# Altium integrated library NSC Legacy.IntLib: 687 symbols (part 9 of 17)
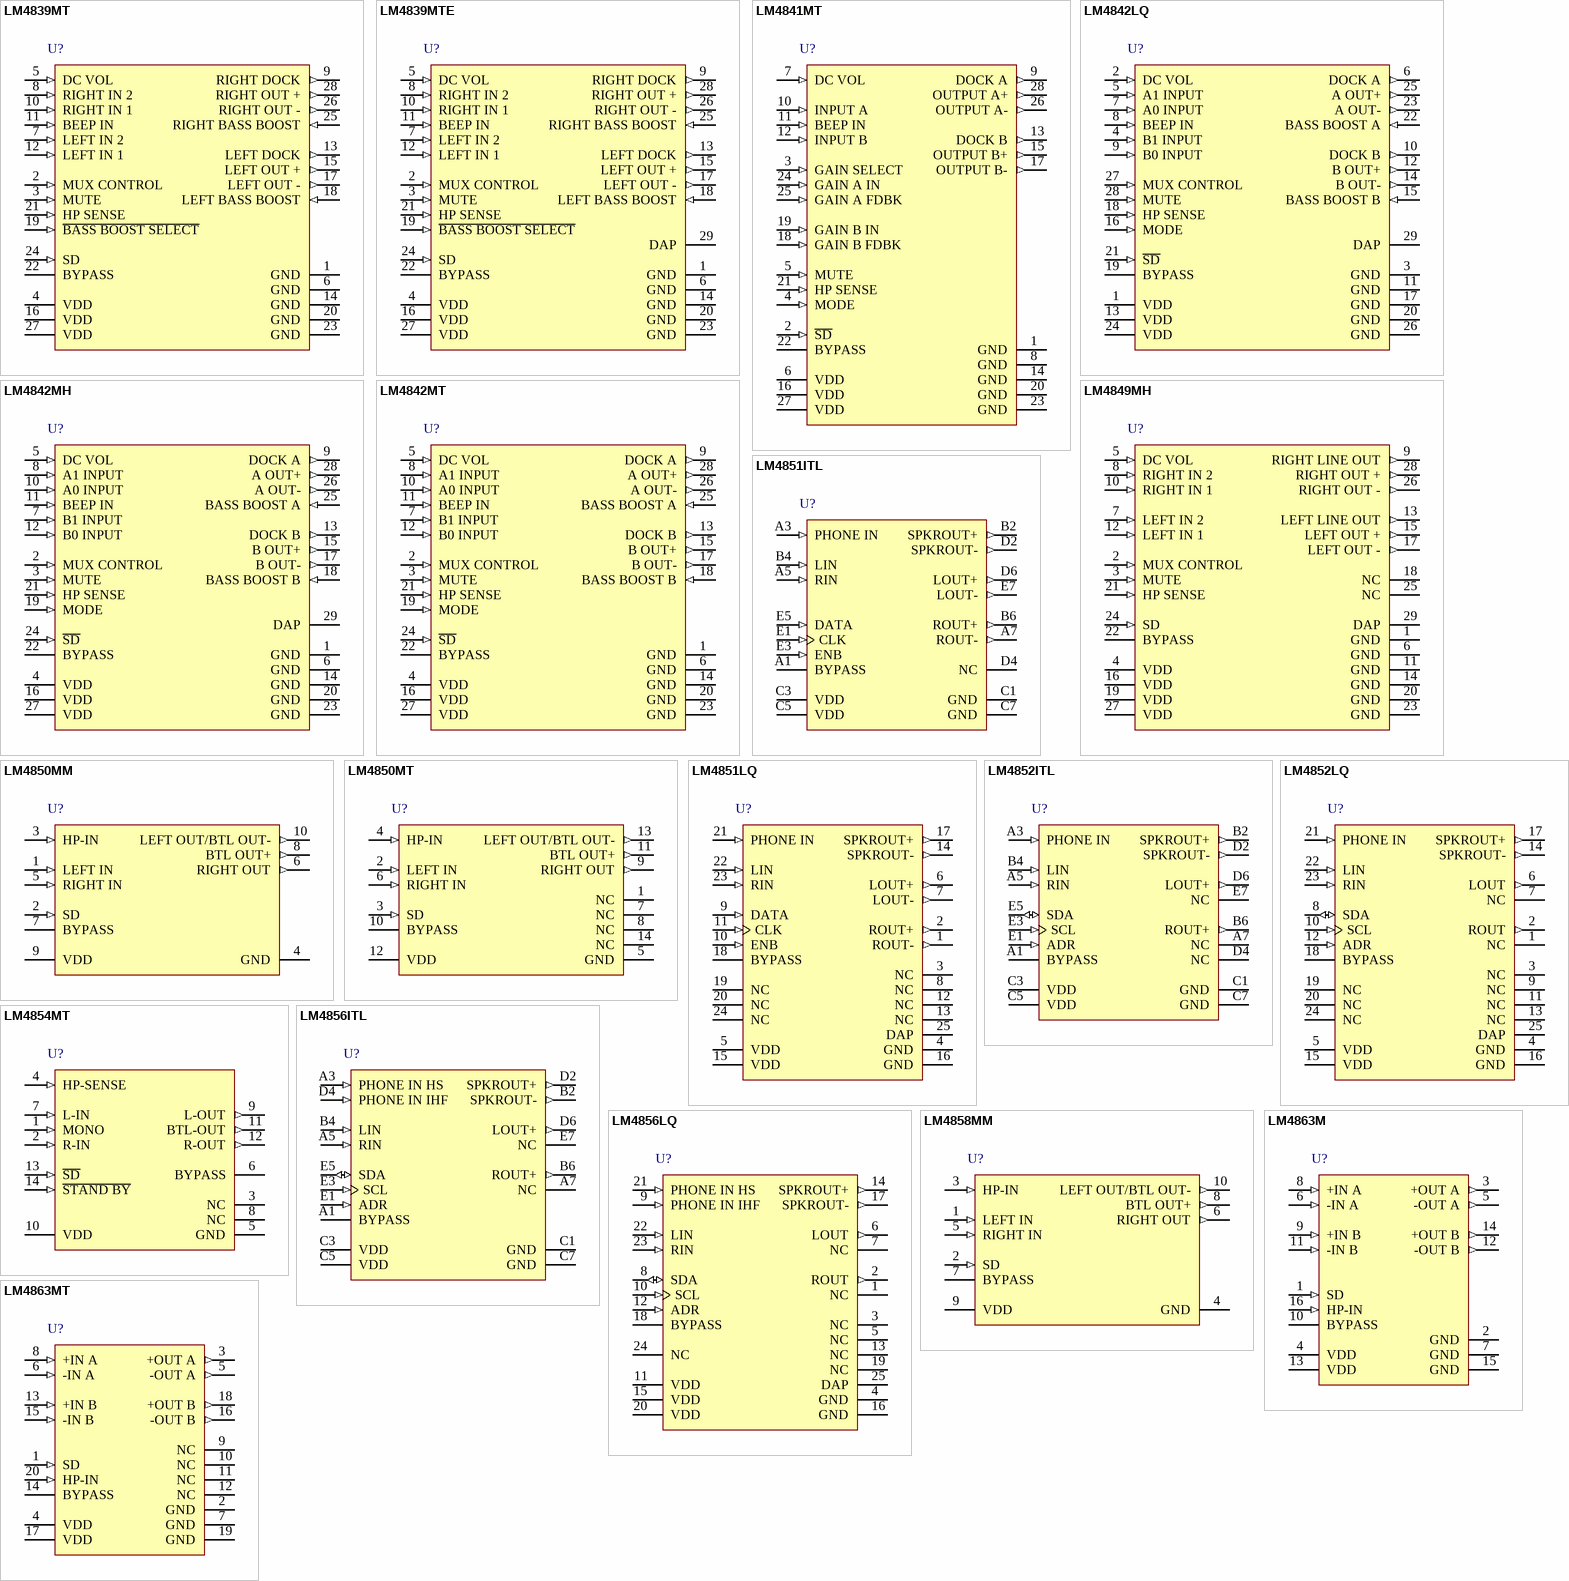
[diagram p32: symbols LM4839MT to LM4863MT]

## LM4839MTE
designator U?
Stereo 2W Audio Power Amplifiers with DC Volume Control, Bass Boost, and Input Mux, 29-pin TSSOP-EP; PartNumber: LM4839MTE; Manufacturer: National Semiconductor; PackageTopMarking: NSUZXYTT*LM4839MTE; CompType: Audio IC; Published: 4-Dec-2008; DatasheetVersion: Apr-2002; PackageVersion: revD, Oct-2003; PackageReference: MXA28A; Publisher: Altium Limited; PackageDescription: Molded TSSOP, Jedec, 9.7 x 4.4 x 0.9mm Body, 28 Lead, 0.65mm Pitch, Exposed Pad; Supplier 1: Farnell; Supplier Part Number 1: 1286903; RoHS: Y; PinCount: 28; Code_JEDEC: MO-153-AET; ComponentLink1Description: LM4839 Datasheet; ComponentLink1URL: http://www.national.com/ds/LM/LM4839.pdf; ComponentLink2Description: LM4839 Web Page; ComponentLink2URL: http://www.national.com/pf/LM/LM4839.html; ComponentLink3Description: MXA28A Package Page; ComponentLink3URL: http://www.national.com/packaging/folders/mxa28a.html
footprint MXA28A_N (TSOP, 28-Leads, Body 9.7x4.4mm, Pitch 0.65mm, Exposed Pad, IPC Medium Density)
footprint MXA28A_L (TSOP, 28-Leads, Body 9.7x4.4mm, Pitch 0.65mm, Exposed Pad, IPC High Density)
footprint MXA28A_M (TSOP, 28-Leads, Body 9.7x4.4mm, Pitch 0.65mm, Exposed Pad, IPC Low Density)
pins: 1 GND (power), 2 MUX CONTROL (in), 3 MUTE (in), 4 VDD (power), 5 DC VOL (in), 6 GND (power), 7 LEFT IN 2 (in), 8 RIGHT IN 2 (in), 9 RIGHT DOCK (out), 10 RIGHT IN 1 (in), 11 BEEP IN (in), 12 LEFT IN 1 (in), 13 LEFT DOCK (out), 14 GND (power), 15 LEFT OUT + (out), 16 VDD (power), 17 LEFT OUT - (out), 18 LEFT BASS BOOST (in), 19 ~{BASS BOOST SELECT} (in), 20 GND (power), 21 HP SENSE (in), 22 BYPASS, 23 GND (power), 24 SD (in), 25 RIGHT BASS BOOST (in), 26 RIGHT OUT - (out), 27 VDD (power), 28 RIGHT OUT + (out), 29 DAP (power)

## LM4841MT
designator U?
Stereo 2W Amplifiers with DC Volume Control, Transient Free Outputs, and Cap-less Headphone Drive, 28-pin TSSOP; PartNumber: LM4841MT; Manufacturer: National Semiconductor; PackageTopMarking: NSUZXYTT*LM4841MT; CompType: Audio IC; Published: 4-Dec-2008; DatasheetVersion: Aug-2002; PackageVersion: revD, Jan-2005; PackageReference: MTC28; Publisher: Altium Limited; PackageDescription: Molded TSSOP, Jedec, 9.7 x 4.4 x 0.9mm Body, 28 Lead, 0.65mm Pitch; RoHS: Y; PinCount: 28; Code_JEDEC: MO-153-AE; ComponentLink1Description: LM4841 Datasheet; ComponentLink1URL: http://www.national.com/ds/LM/LM4841.pdf; ComponentLink2Description: LM4841 Web Page; ComponentLink2URL: http://www.national.com/pf/LM/LM4841.html; ComponentLink3Description: MTC28 Package Page; ComponentLink3URL: http://www.national.com/packaging/folders/mtc28.html
footprint MTC28_N (TSOP, 28-Leads, Body 9.7x4.4mm, Pitch 0.65mm, IPC Medium Density)
footprint MTC28_L (TSOP, 28-Leads, Body 9.7x4.4mm, Pitch 0.65mm, IPC High Density)
footprint MTC28_M (TSOP, 28-Leads, Body 9.7x4.4mm, Pitch 0.65mm, IPC Low Density)
pins: 1 GND (power), 2 ~{SD} (in), 3 GAIN SELECT (in), 4 MODE (in), 5 MUTE (in), 6 VDD (power), 7 DC VOL (in), 8 GND (power), 9 DOCK A (out), 10 INPUT A (in), 11 BEEP IN (in), 12 INPUT B (in), 13 DOCK B (out), 14 GND (power), 15 OUTPUT B+ (out), 16 VDD (power), 17 OUTPUT B- (out), 18 GAIN B FDBK (in), 19 GAIN B IN (in), 20 GND (power), 21 HP SENSE (in), 22 BYPASS, 23 GND (power), 24 GAIN A IN (in), 25 GAIN A FDBK (in), 26 OUTPUT A- (out), 27 VDD (power), 28 OUTPUT A+ (out)

## LM4842LQ
designator U?
Stereo 2W Amplifiers with DC Volume Control, Input MUX, Transient-Free Outputs, and Cap-less Headphone Drive, 29-pin LLP; PartNumber: LM4842LQ; Manufacturer: National Semiconductor; PackageTopMarking: NS*UZXYTT*L4842LQ; CompType: Audio IC; Published: 4-Dec-2008; DatasheetVersion: Oct-2006; PackageVersion: revB, Jul-2001; PackageReference: LQA28A; Publisher: Altium Limited; PackageDescription: LLP, Plastic, Quad, 5 x 5 x 0.75mm Body, 28 Lead, 0.5mm Pitch; RoHS: Y; PinCount: 28; Code_JEDEC: MO-220-WHHD-1; ComponentLink1Description: LM4842 Datasheet; ComponentLink1URL: http://www.national.com/ds/LM/LM4842.pdf; ComponentLink2Description: LM4842 Web Page; ComponentLink2URL: http://www.national.com/pf/LM/LM4842.html; ComponentLink3Description: LQA28A Package Page; ComponentLink3URL: http://www.national.com/packaging/folders/lqa28a.html
footprint LQA28A (PQFN, 28-Leads, Body 5x5mm, Pitch 0.5mm, NSC Recommended)
pins: 1 VDD (power), 2 DC VOL (in), 3 GND (power), 4 B1 INPUT (in), 5 A1 INPUT (in), 6 DOCK A (out), 7 A0 INPUT (in), 8 BEEP IN (in), 9 B0 INPUT (in), 10 DOCK B (out), 11 GND (power), 12 B OUT+ (out), 13 VDD (power), 14 B OUT- (out), 15 BASS BOOST B (in), 16 MODE (in), 17 GND (power), 18 HP SENSE (in), 19 BYPASS, 20 GND (power), 21 ~{SD} (in), 22 BASS BOOST A (in), 23 A OUT- (out), 24 VDD (power), 25 A OUT+ (out), 26 GND (power), 27 MUX CONTROL (in), 28 MUTE (in), 29 DAP (power)

## LM4842MH
designator U?
Stereo 2W Amplifiers with DC Volume Control, Input MUX, Transient-Free Outputs, and Cap-less Headphone Drive, 29-pin TSSOP-EP; PartNumber: LM4842MH; Manufacturer: National Semiconductor; PackageTopMarking: NSUZXYTT*LM4842MH; CompType: Audio IC; Published: 4-Dec-2008; DatasheetVersion: Oct-2006; PackageVersion: revD, Oct-2003; PackageReference: MXA28A; Publisher: Altium Limited; PackageDescription: Molded TSSOP, Jedec, 9.7 x 4.4 x 0.9mm Body, 28 Lead, 0.65mm Pitch, Exposed Pad; RoHS: Y; PinCount: 28; Code_JEDEC: MO-153-AET; ComponentLink1Description: LM4842 Datasheet; ComponentLink1URL: http://www.national.com/ds/LM/LM4842.pdf; ComponentLink2Description: LM4842 Web Page; ComponentLink2URL: http://www.national.com/pf/LM/LM4842.html; ComponentLink3Description: MXA28A Package Page; ComponentLink3URL: http://www.national.com/packaging/folders/mxa28a.html
footprint MXA28A_N (TSOP, 28-Leads, Body 9.7x4.4mm, Pitch 0.65mm, Exposed Pad, IPC Medium Density)
footprint MXA28A_L (TSOP, 28-Leads, Body 9.7x4.4mm, Pitch 0.65mm, Exposed Pad, IPC High Density)
footprint MXA28A_M (TSOP, 28-Leads, Body 9.7x4.4mm, Pitch 0.65mm, Exposed Pad, IPC Low Density)
pins: 1 GND (power), 2 MUX CONTROL (in), 3 MUTE (in), 4 VDD (power), 5 DC VOL (in), 6 GND (power), 7 B1 INPUT (in), 8 A1 INPUT (in), 9 DOCK A (out), 10 A0 INPUT (in), 11 BEEP IN (in), 12 B0 INPUT (in), 13 DOCK B (out), 14 GND (power), 15 B OUT+ (out), 16 VDD (power), 17 B OUT- (out), 18 BASS BOOST B (in), 19 MODE (in), 20 GND (power), 21 HP SENSE (in), 22 BYPASS, 23 GND (power), 24 ~{SD} (in), 25 BASS BOOST A (in), 26 A OUT- (out), 27 VDD (power), 28 A OUT+ (out), 29 DAP (power)

## LM4842MT
designator U?
Stereo 2W Amplifiers with DC Volume Control, Input MUX, Transient-Free Outputs, and Cap-less Headphone Drive, 28-pin TSSOP; PartNumber: LM4842MT; Manufacturer: National Semiconductor; PackageTopMarking: NSUZXYTT*LM4842MT; CompType: Audio IC; Published: 4-Dec-2008; DatasheetVersion: Oct-2006; PackageVersion: revD, Jan-2005; PackageReference: MTC28; Publisher: Altium Limited; PackageDescription: Molded TSSOP, Jedec, 9.7 x 4.4 x 0.9mm Body, 28 Lead, 0.65mm Pitch; RoHS: Y; PinCount: 28; Code_JEDEC: MO-153-AE; ComponentLink1Description: LM4842 Datasheet; ComponentLink1URL: http://www.national.com/ds/LM/LM4842.pdf; ComponentLink2Description: LM4842 Web Page; ComponentLink2URL: http://www.national.com/pf/LM/LM4842.html; ComponentLink3Description: MTC28 Package Page; ComponentLink3URL: http://www.national.com/packaging/folders/mtc28.html
footprint MTC28_N (TSOP, 28-Leads, Body 9.7x4.4mm, Pitch 0.65mm, IPC Medium Density)
footprint MTC28_L (TSOP, 28-Leads, Body 9.7x4.4mm, Pitch 0.65mm, IPC High Density)
footprint MTC28_M (TSOP, 28-Leads, Body 9.7x4.4mm, Pitch 0.65mm, IPC Low Density)
pins: 1 GND (power), 2 MUX CONTROL (in), 3 MUTE (in), 4 VDD (power), 5 DC VOL (in), 6 GND (power), 7 B1 INPUT (in), 8 A1 INPUT (in), 9 DOCK A (out), 10 A0 INPUT (in), 11 BEEP IN (in), 12 B0 INPUT (in), 13 DOCK B (out), 14 GND (power), 15 B OUT+ (out), 16 VDD (power), 17 B OUT- (out), 18 BASS BOOST B (in), 19 MODE (in), 20 GND (power), 21 HP SENSE (in), 22 BYPASS, 23 GND (power), 24 ~{SD} (in), 25 BASS BOOST A (in), 26 A OUT- (out), 27 VDD (power), 28 A OUT+ (out)

## LM4849MH
designator U?
Stereo 2W Audio Power Amplifiers with DC Volume Control and Input Mux, 29-pin TSSOP-EP; PartNumber: LM4849MH; Manufacturer: National Semiconductor; PackageTopMarking: NSUZXYTT*LM4849MH; PowerWise: N; CompType: Audio IC; Published: 4-Dec-2008; DatasheetVersion: Aug-2003; PackageVersion: revD, Oct-2003; PackageReference: MXA28A; Publisher: Altium Limited; PackageDescription: Molded TSSOP, Jedec, 9.7 x 4.4 x 0.9mm Body, 28 Lead, 0.65mm Pitch, Exposed Pad; RoHS: Y; PinCount: 28; Code_JEDEC: MO-153-AET; ComponentLink1Description: LM4849 Datasheet; ComponentLink1URL: http://www.national.com/ds/LM/LM4849.pdf; ComponentLink2Description: LM4849 Web Page; ComponentLink2URL: http://www.national.com/pf/LM/LM4849.html; ComponentLink3Description: MXA28A Package Page; ComponentLink3URL: http://www.national.com/packaging/folders/mxa28a.html
footprint MXA28A_N (TSOP, 28-Leads, Body 9.7x4.4mm, Pitch 0.65mm, Exposed Pad, IPC Medium Density)
footprint MXA28A_L (TSOP, 28-Leads, Body 9.7x4.4mm, Pitch 0.65mm, Exposed Pad, IPC High Density)
footprint MXA28A_M (TSOP, 28-Leads, Body 9.7x4.4mm, Pitch 0.65mm, Exposed Pad, IPC Low Density)
pins: 1 GND (power), 2 MUX CONTROL (in), 3 MUTE (in), 4 VDD (power), 5 DC VOL (in), 6 GND (power), 7 LEFT IN 2 (in), 8 RIGHT IN 2 (in), 9 RIGHT LINE OUT (out), 10 RIGHT IN 1 (in), 11 GND (power), 12 LEFT IN 1 (in), 13 LEFT LINE OUT (out), 14 GND (power), 15 LEFT OUT + (out), 16 VDD (power), 17 LEFT OUT - (out), 18 NC, 19 VDD (power), 20 GND (power), 21 HP SENSE (in), 22 BYPASS, 23 GND (power), 24 SD (in), 25 NC, 26 RIGHT OUT - (out), 27 VDD (power), 28 RIGHT OUT + (out), 29 DAP (power)

## LM4850MM
designator U?
Mono 1.5 W / Stereo 300mW Power Amplifier, 10-pin MSOP; PartNumber: LM4850MM; Manufacturer: National Semiconductor; PackageTopMarking: ZXTT*G50; PowerWise: N; CompType: Audio IC; Published: 4-Dec-2008; DatasheetVersion: Jul-2002; PackageVersion: revB, Jul-2003; PackageReference: MUB10A; Publisher: Altium Limited; PackageDescription: Mini-SO, Molded, .118 x .118 x .034in Body, 10 Lead, .0197in Pitch; RoHS: Y; PinCount: 10; Code_JEDEC: MO-187-BA; ComponentLink1Description: LM4850 Datasheet; ComponentLink1URL: http://www.national.com/ds/LM/LM4850.pdf; ComponentLink2Description: LM4850 Web Page; ComponentLink2URL: http://www.national.com/pf/LM/LM4850.html; ComponentLink3Description: MUB10A Package Page; ComponentLink3URL: http://www.national.com/packaging/folders/mub10a.html
footprint MUB10A_N (TSSOP, 10-Leads, Body 3x3mm, Pitch 0.5mm, IPC Medium Density)
footprint MUB10A_L (TSSOP, 10-Leads, Body 3x3mm, Pitch 0.5mm, IPC High Density)
footprint MUB10A_M (TSSOP, 10-Leads, Body 3x3mm, Pitch 0.5mm, IPC Low Density)
pins: 1 LEFT IN (in), 2 SD (in), 3 HP-IN (in), 4 GND (power), 5 RIGHT IN (in), 6 RIGHT OUT (out), 7 BYPASS, 8 BTL OUT+ (out), 9 VDD (power), 10 LEFT OUT/BTL OUT- (out)

## LM4850MT
designator U?
Mono 1.5 W / Stereo 300mW Power Amplifier, 14-pin TSSOP; PartNumber: LM4850MT; Manufacturer: National Semiconductor; PackageTopMarking: NSZXYTT*LM4850*MT; PowerWise: N; CompType: Audio IC; Published: 4-Dec-2008; DatasheetVersion: Jul-2002; PackageVersion: revD, Jun-2003; PackageReference: MTC14; Publisher: Altium Limited; PackageDescription: Molded TSSOP, JEDEC, 5 x 4.4 x 0.9mm Body, 14 Lead, 0.65mm Pitch; RoHS: Y; PinCount: 14; Code_JEDEC: MO-153-AB-1; ComponentLink1Description: LM4850 Datasheet; ComponentLink1URL: http://www.national.com/ds/LM/LM4850.pdf; ComponentLink2Description: LM4850 Web Page; ComponentLink2URL: http://www.national.com/pf/LM/LM4850.html; ComponentLink3Description: MTC14 Package Page; ComponentLink3URL: http://www.national.com/packaging/folders/mtc14.html
footprint MTC14_N (TSOP, 14-Leads, Body 5x4.4mm, Pitch 0.65mm, IPC Medium Density)
footprint MTC14_L (TSOP, 14-Leads, Body 5x4.4mm, Pitch 0.65mm, IPC High Density)
footprint MTC14_M (TSOP, 14-Leads, Body 5x4.4mm, Pitch 0.65mm, IPC Low Density)
pins: 1 NC, 2 LEFT IN (in), 3 SD (in), 4 HP-IN (in), 5 GND (power), 6 RIGHT IN (in), 7 NC, 8 NC, 9 RIGHT OUT (out), 10 BYPASS, 11 BTL OUT+ (out), 12 VDD (power), 13 LEFT OUT/BTL OUT- (out), 14 NC

## LM4851ITL
designator U?
Integrated Audio Amplifier System, 18-pin Micro SMD; PartNumber: LM4851ITL; Manufacturer: National Semiconductor; PackageTopMarking: XYVG*I B1; PowerWise: N; CompType: Audio IC; Published: 4-Dec-2008; DatasheetVersion: Dec-2002; PackageVersion: revD, Jan-2005; PackageReference: TLA18AAA; Publisher: Altium Limited; PackageDescription: Thin Micro SMD, 18 Bump (Large), 0.5mm Pitch; RoHS: Y; PinCount: 18; ComponentLink1Description: LM4851 Datasheet; ComponentLink1URL: http://www.national.com/ds/LM/LM4851.pdf; ComponentLink2Description: LM4851 Web Page; ComponentLink2URL: http://www.national.com/pf/LM/LM4851.html; ComponentLink3Description: TLA18AAA Package Page; ComponentLink3URL: http://www.national.com/packaging/folders/tla18aaa.html
footprint TLA18AAA (Micro SMD, 18-Leads, Body 2.23x2.0mm, Pitch 0.5mm, NSC Recommended)
pins: A1 BYPASS, A3 PHONE IN (in), A5 RIN (in), A7 ROUT- (out), B2 SPKROUT+ (out), B4 LIN (in), B6 ROUT+ (out), C1 GND (power), C3 VDD (power), C5 VDD (power), C7 GND (power), D2 SPKROUT- (out), D4 NC, D6 LOUT+ (out), E1 CLK (in), E3 ENB (in), E5 DATA (in), E7 LOUT- (out)

## LM4851LQ
designator U?
Integrated Audio Amplifier System, 25-pin LLP; PartNumber: LM4851LQ; Manufacturer: National Semiconductor; PackageTopMarking: NS*UZXYTT*L4851LQ; CompType: Audio IC; Published: 4-Dec-2008; DatasheetVersion: Dec-2002; PackageVersion: revB, Sep-2003; PackageReference: LQA24A; Publisher: Altium Limited; PackageDescription: LLP, Plastic, Quad, 5 x 4 x 0.8mm Body, 24 Lead, 0.5mm Pitch; RoHS: Y; PinCount: 24; ComponentLink1Description: LM4851 Datasheet; ComponentLink1URL: http://www.national.com/ds/LM/LM4851.pdf; ComponentLink2Description: LM4851 Web Page; ComponentLink2URL: http://www.national.com/pf/LM/LM4851.html; ComponentLink3Description: LQA24A Package Page; ComponentLink3URL: http://www.national.com/packaging/folders/lqa24a.html
footprint LQA24A (PQFN, 24-Leads, Body 4x5mm, Pitch 0.5mm, NSC Recommended)
pins: 1 ROUT- (out), 2 ROUT+ (out), 3 NC, 4 GND (power), 5 VDD (power), 6 LOUT+ (out), 7 LOUT- (out), 8 NC, 9 DATA (in), 10 ENB (in), 11 CLK (in), 12 NC, 13 NC, 14 SPKROUT- (out), 15 VDD (power), 16 GND (power), 17 SPKROUT+ (out), 18 BYPASS, 19 NC, 20 NC, 21 PHONE IN (in), 22 LIN (in), 23 RIN (in), 24 NC, 25 DAP (power)

## LM4852ITL
designator U?
Integrated Audio Amplifier System, 18-pin Micro SMD; PartNumber: LM4852ITL; Manufacturer: National Semiconductor; PackageTopMarking: XYVG*I B8; PowerWise: N; CompType: Audio IC; Published: 4-Dec-2008; DatasheetVersion: May-2004; PackageVersion: revD, Jan-2005; PackageReference: TLA18AAA; Publisher: Altium Limited; PackageDescription: Thin Micro SMD, 18 Bump (Large), 0.5mm Pitch; Supplier 1: Farnell; Supplier Part Number 1: 8181101; RoHS: Y; PinCount: 18; ComponentLink1Description: LM4852 Datasheet; ComponentLink1URL: http://www.national.com/ds/LM/LM4852.pdf; ComponentLink2Description: LM4852 Web Page; ComponentLink2URL: http://www.national.com/pf/LM/LM4852.html; ComponentLink3Description: TLA18AAA Package Page; ComponentLink3URL: http://www.national.com/packaging/folders/tla18aaa.html
footprint TLA18AAA (Micro SMD, 18-Leads, Body 2.23x2.0mm, Pitch 0.5mm, NSC Recommended)
pins: A1 BYPASS, A3 PHONE IN (in), A5 RIN (in), A7 NC, B2 SPKROUT+ (out), B4 LIN (in), B6 ROUT+ (out), C1 GND (power), C3 VDD (power), C5 VDD (power), C7 GND (power), D2 SPKROUT- (out), D4 NC, D6 LOUT+ (out), E1 ADR (in), E3 SCL (in), E5 SDA (io), E7 NC

## LM4852LQ
designator U?
Integrated Audio Amplifier System, 25-pin LLP; PartNumber: LM4852LQ; Manufacturer: National Semiconductor; PackageTopMarking: NS*UZXYTT*L4852LQ; PowerWise: N; CompType: Audio IC; Published: 4-Dec-2008; DatasheetVersion: May-2004; PackageVersion: revB, Sep-2003; PackageReference: LQA24A; Publisher: Altium Limited; PackageDescription: LLP, Plastic, Quad, 5 x 4 x 0.8mm Body, 24 Lead, 0.5mm Pitch; Supplier 1: Farnell; Supplier Part Number 1: 8181110; RoHS: Y; PinCount: 24; ComponentLink1Description: LM4852 Datasheet; ComponentLink1URL: http://www.national.com/ds/LM/LM4852.pdf; ComponentLink2Description: LM4852 Web Page; ComponentLink2URL: http://www.national.com/pf/LM/LM4852.html; ComponentLink3Description: LQA24A Package Page; ComponentLink3URL: http://www.national.com/packaging/folders/lqa24a.html
footprint LQA24A (PQFN, 24-Leads, Body 4x5mm, Pitch 0.5mm, NSC Recommended)
pins: 1 NC, 2 ROUT (out), 3 NC, 4 GND (power), 5 VDD (power), 6 LOUT (out), 7 NC, 8 SDA (io), 9 NC, 10 SCL (in), 11 NC, 12 ADR (in), 13 NC, 14 SPKROUT- (out), 15 VDD (power), 16 GND (power), 17 SPKROUT+ (out), 18 BYPASS, 19 NC, 20 NC, 21 PHONE IN (in), 22 LIN (in), 23 RIN (in), 24 NC, 25 DAP (power)

## LM4854MT
designator U?
1.9W Monaural, 85mW Stereo Headphone Audio Amplifier, 14-pin TSSOP; PartNumber: LM4854MT; Manufacturer: National Semiconductor; PackageTopMarking: NSZXYTT*L4854*MT; PowerWise: N; CompType: Audio IC; Published: 4-Dec-2008; DatasheetVersion: Apr-2003; PackageVersion: revD, Jun-2003; PackageReference: MTC14; Publisher: Altium Limited; PackageDescription: Molded TSSOP, JEDEC, 5 x 4.4 x 0.9mm Body, 14 Lead, 0.65mm Pitch; RoHS: Y; PinCount: 14; Code_JEDEC: MO-153-AB-1; ComponentLink1Description: LM4854 Datasheet; ComponentLink1URL: http://www.national.com/ds/LM/LM4854.pdf; ComponentLink2Description: LM4854 Web Page; ComponentLink2URL: http://www.national.com/pf/LM/LM4854.html; ComponentLink3Description: MTC14 Package Page; ComponentLink3URL: http://www.national.com/packaging/folders/mtc14.html
footprint MTC14_N (TSOP, 14-Leads, Body 5x4.4mm, Pitch 0.65mm, IPC Medium Density)
footprint MTC14_L (TSOP, 14-Leads, Body 5x4.4mm, Pitch 0.65mm, IPC High Density)
footprint MTC14_M (TSOP, 14-Leads, Body 5x4.4mm, Pitch 0.65mm, IPC Low Density)
pins: 1 MONO (in), 2 R-IN (in), 3 NC, 4 HP-SENSE (in), 5 GND (power), 6 BYPASS, 7 L-IN (in), 8 NC, 9 L-OUT (out), 10 VDD (power), 11 BTL-OUT (out), 12 R-OUT (out), 13 ~{SD} (in), 14 ~{STAND BY} (in)

## LM4856ITL
designator U?
Integrated Audio Amplifier System, 18-pin Micro SMD; PartNumber: LM4856ITL; Manufacturer: National Semiconductor; PackageTopMarking: XYVG*I B7; PowerWise: N; CompType: Audio IC; Published: 4-Dec-2008; DatasheetVersion: May-2004; PackageVersion: revD, Jan-2005; PackageReference: TLA18AAA; Publisher: Altium Limited; PackageDescription: Thin Micro SMD, 18 Bump (Large), 0.5mm Pitch; Supplier 1: Farnell; Supplier Part Number 1: 8181128; RoHS: Y; PinCount: 18; ComponentLink1Description: LM4856 Datasheet; ComponentLink1URL: http://www.national.com/ds/LM/LM4856.pdf; ComponentLink2Description: LM4856 Web Page; ComponentLink2URL: http://www.national.com/pf/LM/LM4856.html; ComponentLink3Description: TLA18AAA Package Page; ComponentLink3URL: http://www.national.com/packaging/folders/tla18aaa.html
footprint TLA18AAA (Micro SMD, 18-Leads, Body 2.23x2.0mm, Pitch 0.5mm, NSC Recommended)
pins: A1 BYPASS, A3 PHONE IN HS (in), A5 RIN (in), A7 NC, B2 SPKROUT- (out), B4 LIN (in), B6 ROUT+ (out), C1 GND (power), C3 VDD (power), C5 VDD (power), C7 GND (power), D2 SPKROUT+ (out), D4 PHONE IN IHF (in), D6 LOUT+ (out), E1 ADR (in), E3 SCL (in), E5 SDA (io), E7 NC

## LM4856LQ
designator U?
Integrated Audio Amplifier System, 25-pin LLP; PartNumber: LM4856LQ; Manufacturer: National Semiconductor; PackageTopMarking: NS*UZXYTT*L4856LQ; CompType: Audio IC; Published: 4-Dec-2008; DatasheetVersion: May-2004; PackageVersion: revB, Sep-2003; PackageReference: LQA24A; Publisher: Altium Limited; PackageDescription: LLP, Plastic, Quad, 5 x 4 x 0.8mm Body, 24 Lead, 0.5mm Pitch; Supplier 1: Farnell; Supplier Part Number 1: 8181136; RoHS: Y; PinCount: 24; ComponentLink1Description: LM4856 Datasheet; ComponentLink1URL: http://www.national.com/ds/LM/LM4856.pdf; ComponentLink2Description: LM4856 Web Page; ComponentLink2URL: http://www.national.com/pf/LM/LM4856.html; ComponentLink3Description: LQA24A Package Page; ComponentLink3URL: http://www.national.com/packaging/folders/lqa24a.html
footprint LQA24A (PQFN, 24-Leads, Body 4x5mm, Pitch 0.5mm, NSC Recommended)
pins: 1 NC, 2 ROUT (out), 3 NC, 4 GND (power), 5 NC, 6 LOUT (out), 7 NC, 8 SDA (io), 9 PHONE IN IHF (in), 10 SCL (in), 11 VDD (power), 12 ADR (in), 13 NC, 14 SPKROUT+ (out), 15 VDD (power), 16 GND (power), 17 SPKROUT- (out), 18 BYPASS, 19 NC, 20 VDD (power), 21 PHONE IN HS (in), 22 LIN (in), 23 RIN (in), 24 NC, 25 DAP (power)

## LM4858MM
designator U?
Mono 1.5 W / Stereo 300mW Power Amplifier, 10-pin MSOP; PartNumber: LM4858MM; Manufacturer: National Semiconductor; PackageTopMarking: ZXTT*GB1; PowerWise: N; CompType: Audio IC; Published: 4-Dec-2008; DatasheetVersion: May-2003; PackageVersion: revB, Jul-2003; PackageReference: MUB10A; Publisher: Altium Limited; PackageDescription: Mini-SO, Molded, .118 x .118 x .034in Body, 10 Lead, .0197in Pitch; RoHS: Y; PinCount: 10; Code_JEDEC: MO-187-BA; ComponentLink1Description: LM4858 Datasheet; ComponentLink1URL: http://www.national.com/ds/LM/LM4858.pdf; ComponentLink2Description: LM4858 Web Page; ComponentLink2URL: http://www.national.com/pf/LM/LM4858.html; ComponentLink3Description: MUB10A Package Page; ComponentLink3URL: http://www.national.com/packaging/folders/mub10a.html
footprint MUB10A_N (TSSOP, 10-Leads, Body 3x3mm, Pitch 0.5mm, IPC Medium Density)
footprint MUB10A_L (TSSOP, 10-Leads, Body 3x3mm, Pitch 0.5mm, IPC High Density)
footprint MUB10A_M (TSSOP, 10-Leads, Body 3x3mm, Pitch 0.5mm, IPC Low Density)
pins: 1 LEFT IN (in), 2 SD (in), 3 HP-IN (in), 4 GND (power), 5 RIGHT IN (in), 6 RIGHT OUT (out), 7 BYPASS, 8 BTL OUT+ (out), 9 VDD (power), 10 LEFT OUT/BTL OUT- (out)

## LM4863M
designator U?
Dual 2.2W Audio Amplifier Plus Stereo Headphone Function, 16-pin Wide SOIC; PartNumber: LM4863M; Manufacturer: National Semiconductor; PackageTopMarking: NSUZXYTT*LM4863M; PowerWise: N; CompType: Audio IC; Published: 4-Dec-2008; DatasheetVersion: Oct-2006; PackageVersion: revF, Apr-1990; PackageReference: M16B; Publisher: Altium Limited; PackageDescription: Molded Package, S.O., .300in Wide, 16 Lead; RoHS: Y; PinCount: 16; Code_JEDEC: MS-013-AA; Code_IPC: SOIC127P1030-16; ComponentLink1Description: LM4863 Datasheet; ComponentLink1URL: http://www.national.com/ds/LM/LM4863.pdf; ComponentLink2Description: LM4863 Web Page; ComponentLink2URL: http://www.national.com/pf/LM/LM4863.html; ComponentLink3Description: M16B Package Page; ComponentLink3URL: http://www.national.com/packaging/folders/m16b.html
footprint M16B_N (SOIC, 16-Leads, Body 10.3x7.5mm, Pitch 1.27mm, IPC Medium Density)
footprint M16B_L (SOIC, 16-Leads, Body 10.3x7.5mm, Pitch 1.27mm, IPC High Density)
footprint M16B_M (SOIC, 16-Leads, Body 10.3x7.5mm, Pitch 1.27mm, IPC Low Density)
pins: 1 SD (in), 2 GND (power), 3 +OUT A (out), 4 VDD (power), 5 -OUT A (out), 6 -IN A (in), 7 GND (power), 8 +IN A (in), 9 +IN B (in), 10 BYPASS, 11 -IN B (in), 12 -OUT B (out), 13 VDD (power), 14 +OUT B (out), 15 GND (power), 16 HP-IN (in)

## LM4863MT
designator U?
Dual 2.2W Audio Amplifier Plus Stereo Headphone Function, 20-pin TSSOP; PartNumber: LM4863MT; Manufacturer: National Semiconductor; PackageTopMarking: NSUZXYTT*LM4863*MT; PowerWise: N; CompType: Audio IC; Published: 4-Dec-2008; DatasheetVersion: Oct-2006; PackageVersion: revE, Mar-2003; PackageReference: MTC20; Publisher: Altium Limited; PackageDescription: Molded TSSOP, Jedec, 6.5 x 4.4 x 0.9mm Body, 20 Lead, 0.65mm Pitch; RoHS: Y; PinCount: 20; Code_JEDEC: MO-153-AC; ComponentLink1Description: LM4863 Datasheet; ComponentLink1URL: http://www.national.com/ds/LM/LM4863.pdf; ComponentLink2Description: LM4863 Web Page; ComponentLink2URL: http://www.national.com/pf/LM/LM4863.html; ComponentLink3Description: MTC20 Package Page; ComponentLink3URL: http://www.national.com/packaging/folders/mtc20.html
footprint MTC20_N (TSOP, 20-Leads, Body 6.5x4.4mm, Pitch 0.65mm, IPC Medium Density)
footprint MTC20_L (TSOP, 20-Leads, Body 6.5x4.4mm, Pitch 0.65mm, IPC High Density)
footprint MTC20_M (TSOP, 20-Leads, Body 6.5x4.4mm, Pitch 0.65mm, IPC Low Density)
pins: 1 SD (in), 2 GND (power), 3 +OUT A (out), 4 VDD (power), 5 -OUT A (out), 6 -IN A (in), 7 GND (power), 8 +IN A (in), 9 NC, 10 NC, 11 NC, 12 NC, 13 +IN B (in), 14 BYPASS, 15 -IN B (in), 16 -OUT B (out), 17 VDD (power), 18 +OUT B (out), 19 GND (power), 20 HP-IN (in)

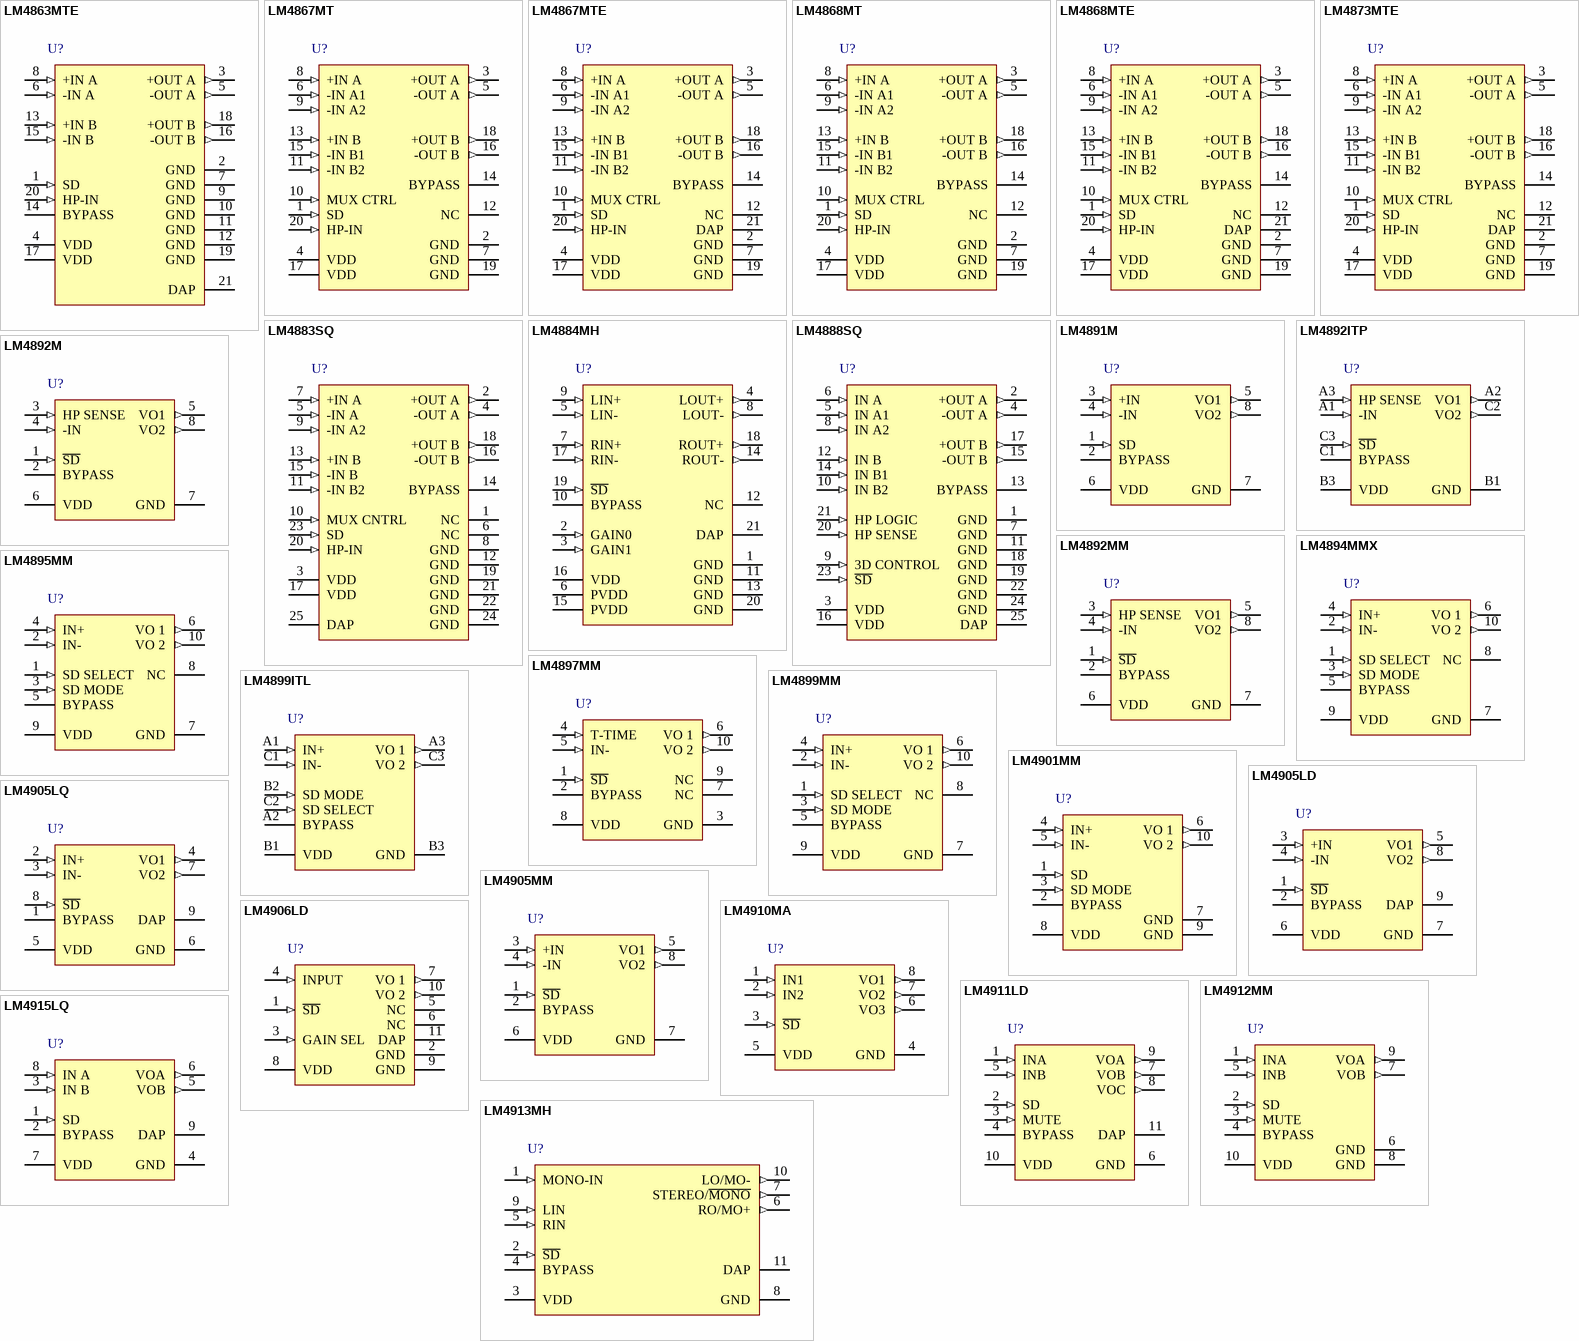
[diagram p14: symbols LM4863MTE to LM4915LQ]

## LM4863MTE
designator U?
Dual 2.2W Audio Amplifier Plus Stereo Headphone Function, 21-pin TSSOP-EP; PartNumber: LM4863MTE; Manufacturer: National Semiconductor; PackageTopMarking: NSUZXYTT*LM4863*MTE; PowerWise: N; CompType: Audio IC; Published: 4-Dec-2008; DatasheetVersion: Oct-2006; PackageVersion: revC, Jul-2006; PackageReference: MXA20A; Publisher: Altium Limited; PackageDescription: Molded TSSOP, Jedec, 6.5 x 4.4 x 0.9mm Body, 20 Lead, 0.65mm Pitch, Exposed Pad; RoHS: Y; PinCount: 20; Code_JEDEC: MO-153-ACT; ComponentLink1Description: LM4863 Datasheet; ComponentLink1URL: http://www.national.com/ds/LM/LM4863.pdf; ComponentLink2Description: LM4863 Web Page; ComponentLink2URL: http://www.national.com/pf/LM/LM4863.html; ComponentLink3Description: MXA20A Package Page; ComponentLink3URL: http://www.national.com/packaging/folders/mxa20a.html
footprint MXA20A_N (TSOP, 20-Leads, Body 6.5x4.4mm, Pitch 0.65mm, Exposed Pad, IPC Medium Density)
footprint MXA20A_L (TSOP, 20-Leads, Body 6.5x4.4mm, Pitch 0.65mm, Exposed Pad, IPC High Density)
footprint MXA20A_M (TSOP, 20-Leads, Body 6.5x4.4mm, Pitch 0.65mm, Exposed Pad, IPC Low Density)
pins: 1 SD (in), 2 GND (power), 3 +OUT A (out), 4 VDD (power), 5 -OUT A (out), 6 -IN A (in), 7 GND (power), 8 +IN A (in), 9 GND (power), 10 GND (power), 11 GND (power), 12 GND (power), 13 +IN B (in), 14 BYPASS, 15 -IN B (in), 16 -OUT B (out), 17 VDD (power), 18 +OUT B (out), 19 GND (power), 20 HP-IN (in), 21 DAP (power)

## LM4867MT
designator U?
Output-Transient-Free Dual 2.1W Audio Amplifier Plus No Coupling Capacitor Stereo Headphone Function, 20-pin TSSOP; PartNumber: LM4867MT; Manufacturer: National Semiconductor; PackageTopMarking: NSUZXYTT*LM4867*MT; PowerWise: N; CompType: Audio IC; Published: 4-Dec-2008; DatasheetVersion: Aug-2002; PackageVersion: revE, Mar-2003; PackageReference: MTC20; Publisher: Altium Limited; PackageDescription: Molded TSSOP, Jedec, 6.5 x 4.4 x 0.9mm Body, 20 Lead, 0.65mm Pitch; RoHS: Y; PinCount: 20; Code_JEDEC: MO-153-AC; ComponentLink1Description: LM4867 Datasheet; ComponentLink1URL: http://www.national.com/ds/LM/LM4867.pdf; ComponentLink2Description: LM4867 Web Page; ComponentLink2URL: http://www.national.com/pf/LM/LM4867.html; ComponentLink3Description: MTC20 Package Page; ComponentLink3URL: http://www.national.com/packaging/folders/mtc20.html
footprint MTC20_N (TSOP, 20-Leads, Body 6.5x4.4mm, Pitch 0.65mm, IPC Medium Density)
footprint MTC20_L (TSOP, 20-Leads, Body 6.5x4.4mm, Pitch 0.65mm, IPC High Density)
footprint MTC20_M (TSOP, 20-Leads, Body 6.5x4.4mm, Pitch 0.65mm, IPC Low Density)
pins: 1 SD (in), 2 GND (power), 3 +OUT A (out), 4 VDD (power), 5 -OUT A (out), 6 -IN A1 (in), 7 GND (power), 8 +IN A (in), 9 -IN A2 (in), 10 MUX CTRL (in), 11 -IN B2 (in), 12 NC, 13 +IN B (in), 14 BYPASS, 15 -IN B1 (in), 16 -OUT B (out), 17 VDD (power), 18 +OUT B (out), 19 GND (power), 20 HP-IN (in)

## LM4867MTE
designator U?
Output-Transient-Free Dual 2.1W Audio Amplifier Plus No Coupling Capacitor Stereo Headphone Function, 21-pin TSSOP-EP; PartNumber: LM4867MTE; Manufacturer: National Semiconductor; PackageTopMarking: NSUZXYTT*LM4867*MTE; PowerWise: N; CompType: Audio IC; Published: 4-Dec-2008; DatasheetVersion: Aug-2002; PackageVersion: revC, Jul-2006; PackageReference: MXA20A; Publisher: Altium Limited; PackageDescription: Molded TSSOP, Jedec, 6.5 x 4.4 x 0.9mm Body, 20 Lead, 0.65mm Pitch, Exposed Pad; RoHS: O; PinCount: 20; Code_JEDEC: MO-153-ACT; ComponentLink1Description: LM4867 Datasheet; ComponentLink1URL: http://www.national.com/ds/LM/LM4867.pdf; ComponentLink2Description: LM4867 Web Page; ComponentLink2URL: http://www.national.com/pf/LM/LM4867.html; ComponentLink3Description: MXA20A Package Page; ComponentLink3URL: http://www.national.com/packaging/folders/mxa20a.html
footprint MXA20A_N (TSOP, 20-Leads, Body 6.5x4.4mm, Pitch 0.65mm, Exposed Pad, IPC Medium Density)
footprint MXA20A_L (TSOP, 20-Leads, Body 6.5x4.4mm, Pitch 0.65mm, Exposed Pad, IPC High Density)
footprint MXA20A_M (TSOP, 20-Leads, Body 6.5x4.4mm, Pitch 0.65mm, Exposed Pad, IPC Low Density)
pins: 1 SD (in), 2 GND (power), 3 +OUT A (out), 4 VDD (power), 5 -OUT A (out), 6 -IN A1 (in), 7 GND (power), 8 +IN A (in), 9 -IN A2 (in), 10 MUX CTRL (in), 11 -IN B2 (in), 12 NC, 13 +IN B (in), 14 BYPASS, 15 -IN B1 (in), 16 -OUT B (out), 17 VDD (power), 18 +OUT B (out), 19 GND (power), 20 HP-IN (in), 21 DAP (power)

## LM4868MT
designator U?
Output-Transient-Free Dual 2.1W Audio Amplifier Plus No Coupling Capacitor Stereo Headphone Function, 20-pin TSSOP; PartNumber: LM4868MT; Manufacturer: National Semiconductor; PackageTopMarking: NSUZXYTT*LM4868*MT; CompType: Audio IC; Published: 4-Dec-2008; DatasheetVersion: Aug-2002; PackageVersion: revE, Mar-2003; PackageReference: MTC20; Publisher: Altium Limited; PackageDescription: Molded TSSOP, Jedec, 6.5 x 4.4 x 0.9mm Body, 20 Lead, 0.65mm Pitch; RoHS: Y; PinCount: 20; Code_JEDEC: MO-153-AC; ComponentLink1Description: LM4868 Datasheet; ComponentLink1URL: http://www.national.com/ds/LM/LM4868.pdf; ComponentLink2Description: LM4868 Web Page; ComponentLink2URL: http://www.national.com/pf/LM/LM4868.html; ComponentLink3Description: MTC20 Package Page; ComponentLink3URL: http://www.national.com/packaging/folders/mtc20.html
footprint MTC20_N (TSOP, 20-Leads, Body 6.5x4.4mm, Pitch 0.65mm, IPC Medium Density)
footprint MTC20_L (TSOP, 20-Leads, Body 6.5x4.4mm, Pitch 0.65mm, IPC High Density)
footprint MTC20_M (TSOP, 20-Leads, Body 6.5x4.4mm, Pitch 0.65mm, IPC Low Density)
pins: 1 SD (in), 2 GND (power), 3 +OUT A (out), 4 VDD (power), 5 -OUT A (out), 6 -IN A1 (in), 7 GND (power), 8 +IN A (in), 9 -IN A2 (in), 10 MUX CTRL (in), 11 -IN B2 (in), 12 NC, 13 +IN B (in), 14 BYPASS, 15 -IN B1 (in), 16 -OUT B (out), 17 VDD (power), 18 +OUT B (out), 19 GND (power), 20 HP-IN (in)

## LM4868MTE
designator U?
Output-Transient-Free Dual 2.1W Audio Amplifier Plus No Coupling Capacitor Stereo Headphone Function, 21-pin TSSOP-EP; PartNumber: LM4868MTE; Manufacturer: National Semiconductor; PackageTopMarking: NSUZXYTT*LM4868*MTE; CompType: Audio IC; Published: 4-Dec-2008; DatasheetVersion: Aug-2002; PackageVersion: revC, Jul-2006; PackageReference: MXA20A; Publisher: Altium Limited; PackageDescription: Molded TSSOP, Jedec, 6.5 x 4.4 x 0.9mm Body, 20 Lead, 0.65mm Pitch, Exposed Pad; RoHS: Y; PinCount: 20; Code_JEDEC: MO-153-ACT; ComponentLink1Description: LM4868 Datasheet; ComponentLink1URL: http://www.national.com/ds/LM/LM4868.pdf; ComponentLink2Description: LM4868 Web Page; ComponentLink2URL: http://www.national.com/pf/LM/LM4868.html; ComponentLink3Description: MXA20A Package Page; ComponentLink3URL: http://www.national.com/packaging/folders/mxa20a.html
footprint MXA20A_N (TSOP, 20-Leads, Body 6.5x4.4mm, Pitch 0.65mm, Exposed Pad, IPC Medium Density)
footprint MXA20A_L (TSOP, 20-Leads, Body 6.5x4.4mm, Pitch 0.65mm, Exposed Pad, IPC High Density)
footprint MXA20A_M (TSOP, 20-Leads, Body 6.5x4.4mm, Pitch 0.65mm, Exposed Pad, IPC Low Density)
pins: 1 SD (in), 2 GND (power), 3 +OUT A (out), 4 VDD (power), 5 -OUT A (out), 6 -IN A1 (in), 7 GND (power), 8 +IN A (in), 9 -IN A2 (in), 10 MUX CTRL (in), 11 -IN B2 (in), 12 NC, 13 +IN B (in), 14 BYPASS, 15 -IN B1 (in), 16 -OUT B (out), 17 VDD (power), 18 +OUT B (out), 19 GND (power), 20 HP-IN (in), 21 DAP (power)

## LM4873MTE
designator U?
Dual 2.1W Audio Amplifier Plus Stereo Headphone Function, 21-pin TSSOP-EP; PartNumber: LM4873MTE; Manufacturer: National Semiconductor; PackageTopMarking: NSUZXYTT*LM4873*MTE; CompType: Audio IC; Published: 4-Dec-2008; DatasheetVersion: Oct-2002; PackageVersion: revC, Jul-2006; PackageReference: MXA20A; Publisher: Altium Limited; PackageDescription: Molded TSSOP, Jedec, 6.5 x 4.4 x 0.9mm Body, 20 Lead, 0.65mm Pitch, Exposed Pad; RoHS: Y; PinCount: 20; Code_JEDEC: MO-153-ACT; ComponentLink1Description: LM4873 Datasheet; ComponentLink1URL: http://www.national.com/ds/LM/LM4873.pdf; ComponentLink2Description: LM4873 Web Page; ComponentLink2URL: http://www.national.com/pf/LM/LM4873.html; ComponentLink3Description: MXA20A Package Page; ComponentLink3URL: http://www.national.com/packaging/folders/mxa20a.html
footprint MXA20A_N (TSOP, 20-Leads, Body 6.5x4.4mm, Pitch 0.65mm, Exposed Pad, IPC Medium Density)
footprint MXA20A_L (TSOP, 20-Leads, Body 6.5x4.4mm, Pitch 0.65mm, Exposed Pad, IPC High Density)
footprint MXA20A_M (TSOP, 20-Leads, Body 6.5x4.4mm, Pitch 0.65mm, Exposed Pad, IPC Low Density)
pins: 1 SD (in), 2 GND (power), 3 +OUT A (out), 4 VDD (power), 5 -OUT A (out), 6 -IN A1 (in), 7 GND (power), 8 +IN A (in), 9 -IN A2 (in), 10 MUX CTRL (in), 11 -IN B2 (in), 12 NC, 13 +IN B (in), 14 BYPASS, 15 -IN B1 (in), 16 -OUT B (out), 17 VDD (power), 18 +OUT B (out), 19 GND (power), 20 HP-IN (in), 21 DAP (power)

## LM4883SQ
designator U?
Dual 2.1W Audio Amplifier Plus Stereo Headphone Function, 25-pin LLP; PartNumber: LM4883SQ; Manufacturer: National Semiconductor; PackageTopMarking: NS*UZXYTT*L4883SQ; PowerWise: N; CompType: Audio IC; Published: 4-Dec-2008; DatasheetVersion: Nov-2004; PackageVersion: revA, Oct-2003; PackageReference: SQA24B; Publisher: Altium Limited; PackageDescription: LLP, Plastic, Quad, 5 x 4 x 0.8mm Body, 24 Lead, 0.5mm Pitch, No Pullback; RoHS: Y; PinCount: 24; Code_JEDEC: MO-220-WGHD-1; ComponentLink1Description: LM4883 Datasheet; ComponentLink1URL: http://www.national.com/ds/LM/LM4883.pdf; ComponentLink2Description: LM4883 Web Page; ComponentLink2URL: http://www.national.com/pf/LM/LM4883.html; ComponentLink3Description: SQA24B Package Page; ComponentLink3URL: http://www.national.com/packaging/folders/sqa24b.html
footprint SQA24B (QFN, 24-Leads, Body 5x4mm, Pitch 0.5mm, NSC Recommended)
pins: 1 NC, 2 +OUT A (out), 3 VDD (power), 4 -OUT A (out), 5 -IN A (in), 6 NC, 7 +IN A (in), 8 GND (power), 9 -IN A2 (in), 10 MUX CNTRL (in), 11 -IN B2 (in), 12 GND (power), 13 +IN B (in), 14 BYPASS, 15 -IN B (in), 16 -OUT B (out), 17 VDD (power), 18 +OUT B (out), 19 GND (power), 20 HP-IN (in), 21 GND (power), 22 GND (power), 23 SD (in), 24 GND (power), 25 DAP (power)

## LM4884MH
designator U?
2.1W Differential Input, BTL Output Stereo Audio Amplifier with RF Suppression and Shutdown, 21-pin TSSOP-EP; PartNumber: LM4884MH; Manufacturer: National Semiconductor; PackageTopMarking: NSUZXYTT*LM4884*MH; PowerWise: N; CompType: Audio IC; Published: 4-Dec-2008; DatasheetVersion: Apr-2005; PackageVersion: revC, Jul-2006; PackageReference: MXA20A; Publisher: Altium Limited; PackageDescription: Molded TSSOP, Jedec, 6.5 x 4.4 x 0.9mm Body, 20 Lead, 0.65mm Pitch, Exposed Pad; RoHS: Y; PinCount: 20; Code_JEDEC: MO-153-ACT; ComponentLink1Description: LM4884 Datasheet; ComponentLink1URL: http://www.national.com/ds/LM/LM4884.pdf; ComponentLink2Description: LM4884 Web Page; ComponentLink2URL: http://www.national.com/pf/LM/LM4884.html; ComponentLink3Description: MXA20A Package Page; ComponentLink3URL: http://www.national.com/packaging/folders/mxa20a.html
footprint MXA20A_N (TSOP, 20-Leads, Body 6.5x4.4mm, Pitch 0.65mm, Exposed Pad, IPC Medium Density)
footprint MXA20A_L (TSOP, 20-Leads, Body 6.5x4.4mm, Pitch 0.65mm, Exposed Pad, IPC High Density)
footprint MXA20A_M (TSOP, 20-Leads, Body 6.5x4.4mm, Pitch 0.65mm, Exposed Pad, IPC Low Density)
pins: 1 GND (power), 2 GAIN0 (in), 3 GAIN1 (in), 4 LOUT+ (out), 5 LIN- (in), 6 PVDD (power), 7 RIN+ (in), 8 LOUT- (out), 9 LIN+ (in), 10 BYPASS, 11 GND (power), 12 NC, 13 GND (power), 14 ROUT- (out), 15 PVDD (power), 16 VDD (power), 17 RIN- (in), 18 ROUT+ (out), 19 ~{SD} (in), 20 GND (power), 21 DAP (power)

## LM4888SQ
designator U?
Dual 2.1W Audio Amplifier Plus Stereo Headphone & 3D Enhancement, 25-pin LLP; PartNumber: LM4888SQ; Manufacturer: National Semiconductor; PackageTopMarking: NS*UZXYTT*L4888SQ; PowerWise: N; CompType: Audio IC; Published: 4-Dec-2008; DatasheetVersion: Mar-2006; PackageVersion: revB, Aug-2003; PackageReference: SQA24A; Publisher: Altium Limited; PackageDescription: LLP, Plastic, Quad, 4 x 4 x 0.8mm Body, 24 Lead, 0.5mm Pitch, No Pullback; RoHS: Y; PinCount: 24; Code_JEDEC: MO-220-WGGD-6; ComponentLink1Description: LM4888 Datasheet; ComponentLink1URL: http://www.national.com/ds/LM/LM4888.pdf; ComponentLink2Description: LM4888 Web Page; ComponentLink2URL: http://www.national.com/pf/LM/LM4888.html; ComponentLink3Description: SQA24C Package Page; ComponentLink3URL: http://www.national.com/packaging/folders/sqa24c.html
footprint SQA24A (QFN, 24-Leads, Body 4x4mm, Pitch 0.5mm, NSC Recommended)
pins: 1 GND (power), 2 +OUT A (out), 3 VDD (power), 4 -OUT A (out), 5 IN A1 (in), 6 IN A (in), 7 GND (power), 8 IN A2 (in), 9 3D CONTROL (in), 10 IN B2 (in), 11 GND (power), 12 IN B (in), 13 BYPASS, 14 IN B1 (in), 15 -OUT B (out), 16 VDD (power), 17 +OUT B (out), 18 GND (power), 19 GND (power), 20 HP SENSE (in), 21 HP LOGIC (in), 22 GND (power), 23 ~{SD} (in), 24 GND (power), 25 DAP (power)

## LM4891M
designator U?
1W Audio Power Amplifier, 8-pin Narrow SOIC; PartNumber: LM4891M; Manufacturer: National Semiconductor; PackageTopMarking: NSZXTT*LM48*91M; PowerWise: N; CompType: Audio IC; Published: 4-Dec-2008; DatasheetVersion: Oct-2002; PackageVersion: revM, May-2009; PackageReference: M08A; Publisher: Altium Limited; PackageDescription: SOIC Narrow, 4.9 x 3.9 x 1.45mm, 8 Lead, 1.27mm Pitch; RoHS: Y; PinCount: 8; Code_JEDEC: MS-012-AA; Code_IPC: SOIC127P600-8; ComponentLink1Description: LM4891 Datasheet; ComponentLink1URL: http://www.national.com/ds/LM/LM4891.pdf; ComponentLink2Description: LM4891 Web Page; ComponentLink2URL: http://www.national.com/pf/LM/LM4891.html; ComponentLink3Description: M08A Package Page; ComponentLink3URL: http://www.national.com/packaging/folders/m08a.html
footprint M08A_N (SOIC, 8-Leads, Body 4.9x3.9mm, Pitch 1.27mm, IPC Medium Density)
footprint M08A_L (SOIC, 8-Leads, Body 4.9x3.9mm, Pitch 1.27mm, IPC High Density)
footprint M08A_M (SOIC, 8-Leads, Body 4.9x3.9mm, Pitch 1.27mm, IPC Low Density)
pins: 1 SD (in), 2 BYPASS, 3 +IN (in), 4 -IN (in), 5 VO1 (out), 6 VDD (power), 7 GND (power), 8 VO2 (out)

## LM4892ITP
designator U?
1W Audio Power Amplifier with Headphone Sense, 8-pin Micro SMD; PartNumber: LM4892ITP; Manufacturer: National Semiconductor; PackageTopMarking: XVG*I E1; PowerWise: N; CompType: Audio IC; Published: 4-Dec-2008; DatasheetVersion: Oct-2002; PackageVersion: revA, Mar-2002; PackageReference: TPA08DDA; Publisher: Altium Limited; PackageDescription: Thin Micro SMD, 8 Bump, 0.5mm Pitch; RoHS: Y; PinCount: 8; Code_JEDEC: MO-211-BC; ComponentLink1Description: LM4892 Datasheet; ComponentLink1URL: http://www.national.com/ds/LM/LM4892.pdf; ComponentLink2Description: LM4892 Web Page; ComponentLink2URL: http://www.national.com/pf/LM/LM4892.html; ComponentLink3Description: TPA08DDA Package Page; ComponentLink3URL: http://www.national.com/packaging/folders/tpa08dda.html
footprint TPA08DDA (Micro SMD, 8-Leads, Body 1.36x1.36mm, Pitch 0.5mm, NSC Recommended)
pins: A1 -IN (in), A2 VO1 (out), A3 HP SENSE (in), B1 GND (power), B3 VDD (power), C1 BYPASS, C2 VO2 (out), C3 ~{SD} (in)

## LM4892M
designator U?
1W Audio Power Amplifier with Headphone Sense, 8-pin Narrow SOIC; PartNumber: LM4892M; Manufacturer: National Semiconductor; PackageTopMarking: NSZXTT*LM48*92M; PowerWise: N; CompType: Audio IC; Published: 4-Dec-2008; DatasheetVersion: Oct-2002; PackageVersion: revM, May-2009; PackageReference: M08A; Publisher: Altium Limited; PackageDescription: SOIC Narrow, 4.9 x 3.9 x 1.45mm, 8 Lead, 1.27mm Pitch; RoHS: Y; PinCount: 8; Code_JEDEC: MS-012-AA; Code_IPC: SOIC127P600-8; ComponentLink1Description: LM4892 Datasheet; ComponentLink1URL: http://www.national.com/ds/LM/LM4892.pdf; ComponentLink2Description: LM4892 Web Page; ComponentLink2URL: http://www.national.com/pf/LM/LM4892.html; ComponentLink3Description: M08A Package Page; ComponentLink3URL: http://www.national.com/packaging/folders/m08a.html
footprint M08A_N (SOIC, 8-Leads, Body 4.9x3.9mm, Pitch 1.27mm, IPC Medium Density)
footprint M08A_L (SOIC, 8-Leads, Body 4.9x3.9mm, Pitch 1.27mm, IPC High Density)
footprint M08A_M (SOIC, 8-Leads, Body 4.9x3.9mm, Pitch 1.27mm, IPC Low Density)
pins: 1 ~{SD} (in), 2 BYPASS, 3 HP SENSE (in), 4 -IN (in), 5 VO1 (out), 6 VDD (power), 7 GND (power), 8 VO2 (out)

## LM4892MM
designator U?
1W Audio Power Amplifier with Headphone Sense, 8-pin Mini SOIC; PartNumber: LM4892MM; Manufacturer: National Semiconductor; PackageTopMarking: ZXTT*G92; PowerWise: N; CompType: Audio IC; Published: 4-Dec-2008; DatasheetVersion: Oct-2002; PackageVersion: revF, Apr-2008; PackageReference: MUA08A; Publisher: Altium Limited; PackageDescription: MINI SOIC, .118 x .118 x .034in, 8 Lead, .0256in Pitch; RoHS: Y; PinCount: 8; Code_JEDEC: MO-187-AA; ComponentLink1Description: LM4892 Datasheet; ComponentLink1URL: http://www.national.com/ds/LM/LM4892.pdf; ComponentLink2Description: LM4892 Web Page; ComponentLink2URL: http://www.national.com/pf/LM/LM4892.html; ComponentLink3Description: MUA08A Package Page; ComponentLink3URL: http://www.national.com/packaging/folders/mua08a.html
footprint MUA08A_N (TSOP, 8-Leads, Body 3x3mm, Pitch 0.65mm, IPC Medium Density)
footprint MUA08A_L (TSOP, 8-Leads, Body 3x3mm, Pitch 0.65mm, IPC High Density)
footprint MUA08A_M (TSOP, 8-Leads, Body 3x3mm, Pitch 0.65mm, IPC Low Density)
pins: 1 ~{SD} (in), 2 BYPASS, 3 HP SENSE (in), 4 -IN (in), 5 VO1 (out), 6 VDD (power), 7 GND (power), 8 VO2 (out)

## LM4894MMX
designator U?
1 Watt Fully Differential Audio Power Amplifier With Shutdown Select, 10 pin MINI SOIC; PartNumber: LM4894MMX; Manufacturer: National Semiconductor; PackageTopMarking: ZXTT*G94; PowerWise: N; CompType: Audio IC; Published: 16-Nov-2010; DatasheetVersion: Jul-2003; PackageVersion: revB, Jul-2003; PackageReference: MUB10A; Publisher: Altium Limited; PackageDescription: Mini-SO, Molded, .118 x .118 x .034in Body, 10 Lead, .0197in Pitch; RoHS: N; PinCount: 10; Code_JEDEC: MO-187-BA; ComponentLink1Description: LM4894 Datasheet; ComponentLink1URL: http://www.national.com/ds/LM/LM4894.pdf; ComponentLink2Description: LM4894 Web Page; ComponentLink2URL: http://www.national.com/pf/LM/LM4894.html; ComponentLink3Description: MUB10A Package Page; ComponentLink3URL: http://www.national.com/packaging/folders/mub10a.html
footprint MUB10A_N (TSSOP, 10-Leads, Body 3x3mm, Pitch 0.5mm, IPC Medium Density)
footprint MUB10A_L (TSSOP, 10-Leads, Body 3x3mm, Pitch 0.5mm, IPC High Density)
footprint MUB10A_M (TSSOP, 10-Leads, Body 3x3mm, Pitch 0.5mm, IPC Low Density)
pins: 1 SD SELECT (in), 2 IN- (in), 3 SD MODE (in), 4 IN+ (in), 5 BYPASS, 6 VO 1 (out), 7 GND (power), 8 NC, 9 VDD (power), 10 VO 2 (out)

## LM4895MM
designator U?
1W Fully Differential Audio Power Amplifier With Shutdown Select and Fixed 6dB Gain, 10-pin MSOP; PartNumber: LM4895MM; Manufacturer: National Semiconductor; PackageTopMarking: ZXTT*G95; PowerWise: N; CompType: Audio IC; Published: 4-Dec-2008; DatasheetVersion: Oct-2002; PackageVersion: revB, Jul-2003; PackageReference: MUB10A; Publisher: Altium Limited; PackageDescription: Mini-SO, Molded, .118 x .118 x .034in Body, 10 Lead, .0197in Pitch; RoHS: Y; PinCount: 10; Code_JEDEC: MO-187-BA; ComponentLink1Description: LM4895 Datasheet; ComponentLink1URL: http://www.national.com/ds/LM/LM4895.pdf; ComponentLink2Description: LM4895 Web Page; ComponentLink2URL: http://www.national.com/pf/LM/LM4895.html; ComponentLink3Description: MUB10A Package Page; ComponentLink3URL: http://www.national.com/packaging/folders/mub10a.html
footprint MUB10A_N (TSSOP, 10-Leads, Body 3x3mm, Pitch 0.5mm, IPC Medium Density)
footprint MUB10A_L (TSSOP, 10-Leads, Body 3x3mm, Pitch 0.5mm, IPC High Density)
footprint MUB10A_M (TSSOP, 10-Leads, Body 3x3mm, Pitch 0.5mm, IPC Low Density)
pins: 1 SD SELECT (in), 2 IN- (in), 3 SD MODE (in), 4 IN+ (in), 5 BYPASS, 6 VO 1 (out), 7 GND (power), 8 NC, 9 VDD (power), 10 VO 2 (out)

## LM4897MM
designator U?
1.1W Audio Power Amplifier with Fade-In and Fade-Out, 10-pin MSOP; PartNumber: LM4897MM; Manufacturer: National Semiconductor; PackageTopMarking: ZXTT*G97; CompType: Audio IC; Published: 4-Dec-2008; DatasheetVersion: May-2003; PackageVersion: revB, Jul-2003; PackageReference: MUB10A; Publisher: Altium Limited; PackageDescription: Mini-SO, Molded, .118 x .118 x .034in Body, 10 Lead, .0197in Pitch; RoHS: Y; PinCount: 10; Code_JEDEC: MO-187-BA; ComponentLink1Description: LM4897 Datasheet; ComponentLink1URL: http://www.national.com/ds/LM/LM4897.pdf; ComponentLink2Description: LM4897 Web Page; ComponentLink2URL: http://www.national.com/pf/LM/LM4897.html; ComponentLink3Description: MUB10A Package Page; ComponentLink3URL: http://www.national.com/packaging/folders/mub10a.html
footprint MUB10A_N (TSSOP, 10-Leads, Body 3x3mm, Pitch 0.5mm, IPC Medium Density)
footprint MUB10A_L (TSSOP, 10-Leads, Body 3x3mm, Pitch 0.5mm, IPC High Density)
footprint MUB10A_M (TSSOP, 10-Leads, Body 3x3mm, Pitch 0.5mm, IPC Low Density)
pins: 1 ~{SD} (in), 2 BYPASS, 3 GND (power), 4 T-TIME (in), 5 IN- (in), 6 VO 1 (out), 7 NC, 8 VDD (power), 9 NC, 10 VO 2 (out)

## LM4899ITL
designator U?
1W Fully Differential Audio Power Amplifier With Shutdown Select and Fixed 6dB Gain, 9-pin Micro SMD; PartNumber: LM4899ITL; Manufacturer: National Semiconductor; PackageTopMarking: XVG*I C1; PowerWise: N; CompType: Audio IC; Published: 4-Dec-2008; DatasheetVersion: Jul-2003; PackageVersion: revC, Jan-2004; PackageReference: TLA09AAA; Publisher: Altium Limited; PackageDescription: Thin Micro SMD, 9 Bump (Large), 0.5mm Pitch; RoHS: Y; PinCount: 9; Code_JEDEC: MO-211-DD; ComponentLink1Description: LM4899 Datasheet; ComponentLink1URL: http://www.national.com/ds/LM/LM4899.pdf; ComponentLink2Description: LM4899 Web Page; ComponentLink2URL: http://www.national.com/pf/LM/LM4899.html; ComponentLink3Description: TLA09AAA Package Page; ComponentLink3URL: http://www.national.com/packaging/folders/tla09aaa.html
footprint TLA09AAA (Micro SMD, 9-Leads, Body 1.52x1.52mm, Pitch 0.5mm, NSC Recommended)
pins: A1 IN+ (in), A2 BYPASS, A3 VO 1 (out), B1 VDD (power), B2 SD MODE (in), B3 GND (power), C1 IN- (in), C2 SD SELECT (in), C3 VO 2 (out)

## LM4899MM
designator U?
1W Fully Differential Audio Power Amplifier With Shutdown Select and Fixed 6dB Gain, 10-pin MSOP; PartNumber: LM4899MM; Manufacturer: National Semiconductor; PackageTopMarking: ZXTT*GB2; PowerWise: N; CompType: Audio IC; Published: 4-Dec-2008; DatasheetVersion: Jul-2003; PackageVersion: revB, Jul-2003; PackageReference: MUB10A; Publisher: Altium Limited; PackageDescription: Mini-SO, Molded, .118 x .118 x .034in Body, 10 Lead, .0197in Pitch; RoHS: Y; PinCount: 10; Code_JEDEC: MO-187-BA; ComponentLink1Description: LM4899 Datasheet; ComponentLink1URL: http://www.national.com/ds/LM/LM4899.pdf; ComponentLink2Description: LM4899 Web Page; ComponentLink2URL: http://www.national.com/pf/LM/LM4899.html; ComponentLink3Description: MUB10A Package Page; ComponentLink3URL: http://www.national.com/packaging/folders/mub10a.html
footprint MUB10A_N (TSSOP, 10-Leads, Body 3x3mm, Pitch 0.5mm, IPC Medium Density)
footprint MUB10A_L (TSSOP, 10-Leads, Body 3x3mm, Pitch 0.5mm, IPC High Density)
footprint MUB10A_M (TSSOP, 10-Leads, Body 3x3mm, Pitch 0.5mm, IPC Low Density)
pins: 1 SD SELECT (in), 2 IN- (in), 3 SD MODE (in), 4 IN+ (in), 5 BYPASS, 6 VO 1 (out), 7 GND (power), 8 NC, 9 VDD (power), 10 VO 2 (out)

## LM4901MM
designator U?
1.6 Watt Audio Power Amplifier with Selectable Shutdown Logic Level, 10-pin MSOP; PartNumber: LM4901MM; Manufacturer: National Semiconductor; PackageTopMarking: ZXTT*GC1; CompType: Audio IC; Published: 4-Dec-2008; DatasheetVersion: Jul-2006; PackageVersion: revB, Jul-2003; PackageReference: MUB10A; Publisher: Altium Limited; PackageDescription: Mini-SO, Molded, .118 x .118 x .034in Body, 10 Lead, .0197in Pitch; Supplier 1: Farnell; Supplier Part Number 1: 1312779; RoHS: Y; PinCount: 10; Code_JEDEC: MO-187-BA; ComponentLink1Description: LM4901 Datasheet; ComponentLink1URL: http://www.national.com/ds/LM/LM4901.pdf; ComponentLink2Description: LM4901 Web Page; ComponentLink2URL: http://www.national.com/pf/LM/LM4901.html; ComponentLink3Description: MUB10A Package Page; ComponentLink3URL: http://www.national.com/packaging/folders/mub10a.html
footprint MUB10A_N (TSSOP, 10-Leads, Body 3x3mm, Pitch 0.5mm, IPC Medium Density)
footprint MUB10A_L (TSSOP, 10-Leads, Body 3x3mm, Pitch 0.5mm, IPC High Density)
footprint MUB10A_M (TSSOP, 10-Leads, Body 3x3mm, Pitch 0.5mm, IPC Low Density)
pins: 1 SD (in), 2 BYPASS, 3 SD MODE (in), 4 IN+ (in), 5 IN- (in), 6 VO 1 (out), 7 GND (power), 8 VDD (power), 9 GND (power), 10 VO 2 (out)

## LM4905LD
designator U?
1W Audio Power Amplifier, 9-pin LLP; PartNumber: LM4905LD; Manufacturer: National Semiconductor; PackageTopMarking: ZXYTT*L4905; CompType: Audio IC; Published: 4-Dec-2008; DatasheetVersion: Jul-2003; PackageVersion: revC, Nov-2002; PackageReference: LDA08A; Publisher: Altium Limited; PackageDescription: LLP, Plastic, Dual, 3 x 3 x 0.75mm Body, 8 Lead, 0.5mm Pitch; RoHS: Y; PinCount: 8; ComponentLink1Description: LM4905 Datasheet; ComponentLink1URL: http://www.national.com/ds/LM/LM4905.pdf; ComponentLink2Description: LM4905 Web Page; ComponentLink2URL: http://www.national.com/pf/LM/LM4905.html; ComponentLink3Description: LDA08A Package Page; ComponentLink3URL: http://www.national.com/packaging/folders/lda08a.html
footprint LDA08A (PSON, 8-Leads, Body 3x3mm, Pitch 0.5mm, NSC Recommended)
pins: 1 ~{SD} (in), 2 BYPASS, 3 +IN (in), 4 -IN (in), 5 VO1 (out), 6 VDD (power), 7 GND (power), 8 VO2 (out), 9 DAP (power)